# EAGLE library part ADAFRUIT_BLUETOOTH_LE_UART_FRIEND (library Boards)
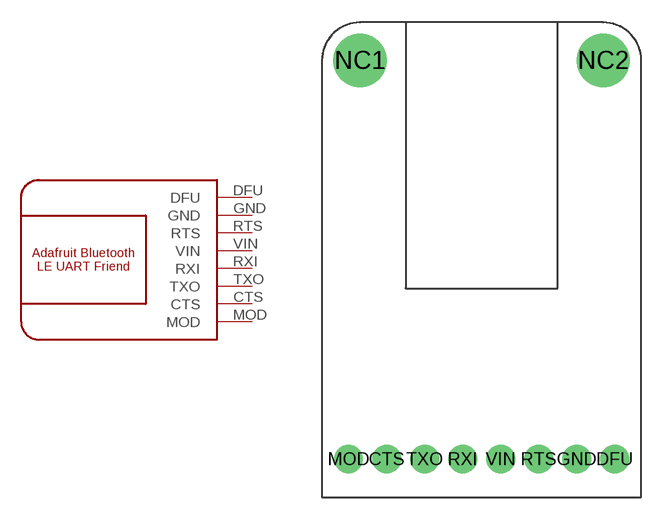
[diagram p9: symbol with the pads of ADAFRUIT_BLUETOOTH_LE_UART_FRIEND; footprint ADAFRUIT_BLUETOOTH_LE_UART_FRIEND]

Designator prefix -

## ADAFRUIT_BLUETOOTH_LE_UART_FRIEND  [ADAFRUIT_BLUETOOTH_LE_UART_FRIEND]
CTS  CTS
DFU  DFU
GND  GND
MOD  MOD
RTS  RTS
RXI  RXI
TXO  TXO
VIN  VIN

## Footprint ADAFRUIT_BLUETOOTH_LE_UART_FRIEND (pad centres in mm)
drill 1 pad 1.93: CTS -6.35,0; DFU 8.89,0; GND 6.35,0; MOD -8.89,0; RTS 3.81,0; RXI -1.27,0; TXO -3.81,0; VIN 1.27,0
drill 2.54: NC1 -8.128,26.67; NC2 8.128,26.67